# EAGLE library part PINLIST_10_2MM (library connectors)
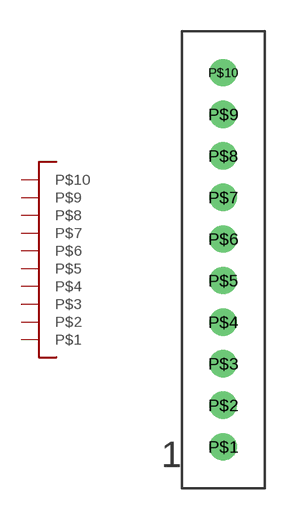
[diagram p68: symbol with the pads of PINLIST_10_2MM; footprint PINLIST_10_2MM]

Designator prefix -

## PINLIST_10_2MM  [PINLIST_10_2MM]
P$1  P$1
P$2  P$2
P$3  P$3
P$4  P$4
P$5  P$5
P$6  P$6
P$7  P$7
P$8  P$8
P$9  P$9
P$10  P$10

## Footprint PINLIST_10_2MM (pad centres in mm)
drill 0.8: P$1 0,0; P$2 0,2; P$3 0,4; P$4 0,6; P$5 0,8; P$6 0,10; P$7 0,12; P$8 0,14; P$9 0,16; P$10 0,18